# EAGLE library part TS3A5017 (library myLib)
TS3A5017DR IC SWITCH DUAL SP4T 16SOIC
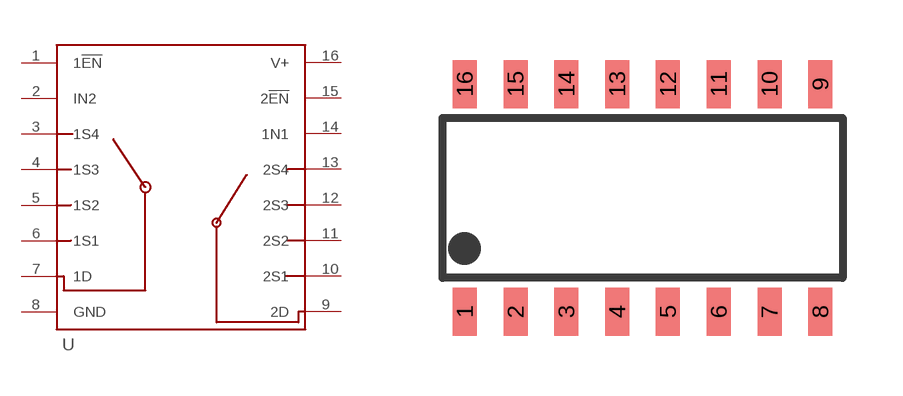
[diagram p21: symbol with the pads of 16-SOIC; footprint 16-SOIC]

Designator prefix -

## TS3A5017  [16-SOIC]
1  1!EN
2  IN2
3  1S4
4  1S3
5  1S2
6  1S1
7  1D
8  GND
9  2D
10  2S1
11  2S2
12  2S3
13  2S4
14  1N1
15  2!EN
16  V+

## Footprint 16-SOIC (pad centres in mm)
TI 16-SOIC (R-PDSO-G16)
smd 0.6 x 1.2: 1 -4.445,-2.845; 2 -3.175,-2.845; 3 -1.905,-2.845; 4 -0.635,-2.845; 5 0.635,-2.845; 6 1.905,-2.845; 7 3.175,-2.845; 8 4.445,-2.845; 9 4.445,2.845; 10 3.175,2.845; 11 1.905,2.845; 12 0.635,2.845; 13 -0.635,2.845; 14 -1.905,2.845; 15 -3.175,2.845; 16 -4.445,2.845